# Altium schematic symbol library Parts.SchLib: 8 symbols
Pins are listed as number, name and electrical type; pins without a type are passive.

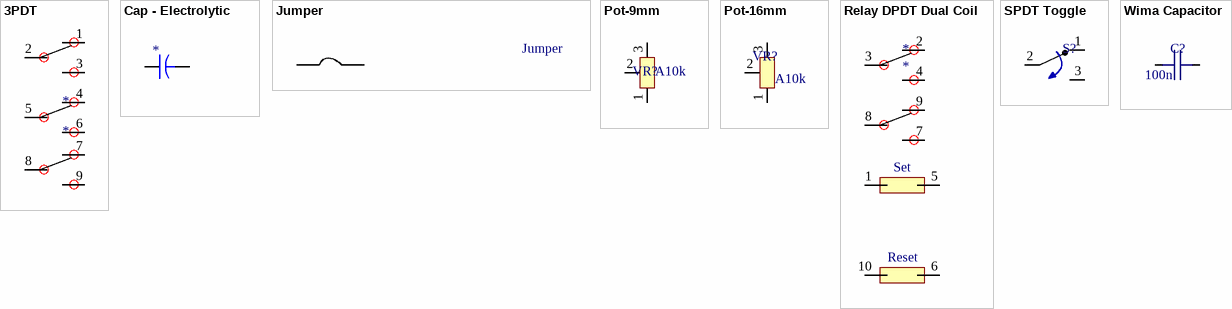
[diagram p0: symbols 3PDT to Wima Capacitor]

## 3PDT
designator *
footprint 3PDT
pins: 1, 2 4, 3, 4 2, 5, 6 8, 7, 8, 9

## Cap - Electrolytic
designator *  (value not drawn)
Value: 100uF
footprint Cap - Electrolytic
pins: 1, 2

## Jumper
designator Jumper  (value not drawn)
footprint Jumper
pins: 1, 2

## Pot-9mm
designator VR?  value A10k  (hidden comment: *)
Potentiometer 9mm
footprint Pot-16mm
pins: 1, 2, 3

## Pot-16mm
designator VR?  value A10k  (hidden comment: *)
footprint Pot-16mm
pins: 1, 2, 3

## Relay DPDT Dual Coil
designator *
footprint EB2 Relay
pins: 1, 2, 3, 4, 5, 6, 7, 8, 9, 10
text: Set; Reset

## SPDT Toggle
designator S?  (value not drawn)
footprint SPDT Toggle
pins: 1, 2, 3

## Wima Capacitor
designator C?  value 100n  (hidden comment: *)
footprint Cap-0.2"
pins: 1, 2